# EAGLE library part SDCARD (library connectors)
SD CARD CONNECTOR Push/Push Connector with card detect and lock detect. Farnell: 918 6174
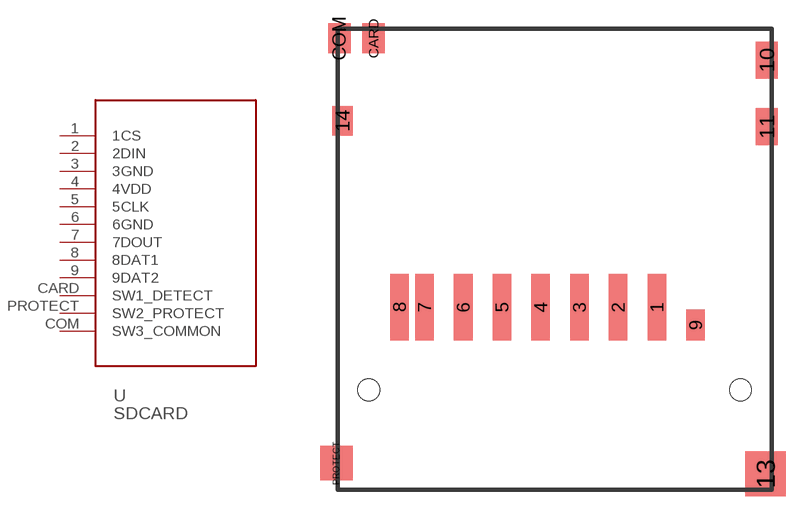
[diagram p6: symbol with the pads of SDCARD_12PINS; footprint SDCARD_12PINS]

Designator prefix -

## SDCARD  [SDCARD_12PINS]
1  1CS
2  2DIN
3  3GND
4  4VDD
5  5CLK
6  6GND
7  7DOUT
8  8DAT1
9  9DAT2
CARD  SW1_DETECT
COM  SW3_COMMON
PROTECT  SW2_PROTECT

## Footprint SDCARD_12PINS (pad centres in mm)
smd 1.2 x 4.3: 1 6.597,5.337; 2 4.097,5.337; 3 1.597,5.337; 4 -0.903,5.337; 5 -3.403,5.337; 6 -5.903,5.337; 7 -8.4,5.342; 8 -10.019,5.352
smd 1.2 x 2: 9 9.097,4.187
smd 1.4 x 2.4: 10 13.694,21.302; 11 13.694,17.009
smd 2.6 x 2.9: 13 13.614,-5.426
smd 1.3 x 1.9: 14 -13.694,17.39
smd 1.45 x 1.95: CARD -11.701,22.715; COM -13.894,22.715
smd 2.1 x 2.2: PROTECT -14.084,-4.731
hole 1.4 at -12,0
hole 1.4 at 12,0